# Altium footprint library JK00136NL.PcbLib: 1 footprints
Each footprint in its own frame and in the unit in brackets; x right, y up, seen from the top. Pads: shape width x height; smd on the part's side, far side on the other; paste and mask are expansions set on the pad; w line width, h text height; cw(c..) or ccw(c..) is an arc to the next point about the centre after c.
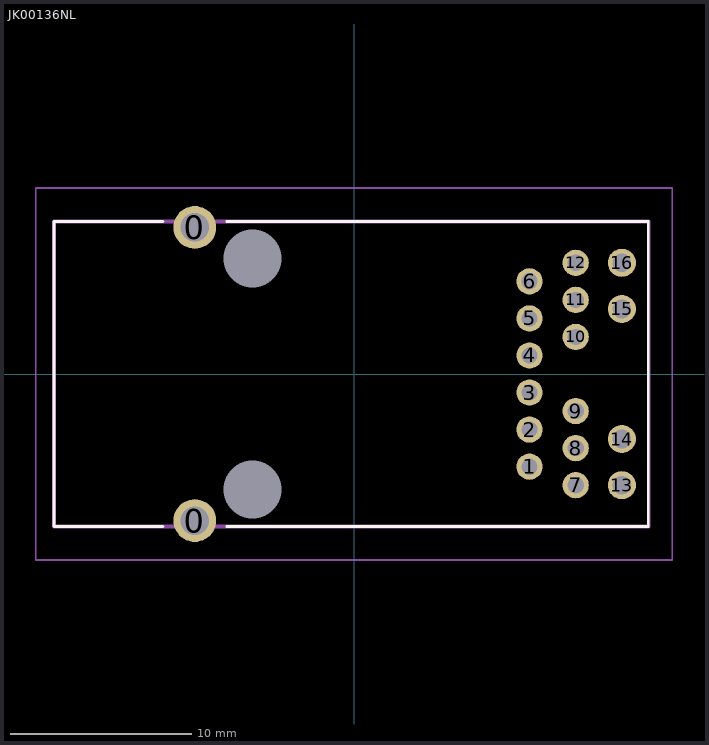
[diagram p0: the footprint, top view; thin cyan lines are the x and y axes]

## JK00136NL [mm]
pads (20):
  round 2.355 hole 1.57: 0(-8.76,-8.065) 0(-8.76,8.065)
  round 1.446 hole 0.89: 1(9.66,-5.1) 2(9.66,-3.06) 3(9.66,-1.02) 4(9.66,1.02) 5(9.66,3.06) 6(9.66,5.1) 7(12.2,-6.12) 8(12.2,-4.08) 9(12.2,-2.04) 10(12.2,2.04) 11(12.2,4.08) 12(12.2,6.12)
  round 1.545 hole 1.03: 13(14.74,-6.12) 14(14.74,-3.58) 15(14.74,3.58) 16(14.74,6.12)
  round 0 hole 3.2 unplated mask+1.7: 17(-5.58,6.35) 18(-5.58,-6.35)
Top Overlay:
  lines w0.15: -10.51,-8.395 -16.51,-8.395 -16.51,8.395 -10.51,8.395 ; -7.01,-8.395 16.2,-8.395 16.2,8.395 -7.01,8.395
Mechanical 15:
  lines w0.2: -16.51,-8.395 16.225,-8.395 16.225,8.395 -16.51,8.395 -16.51,-8.395
Mechanical 20:
  lines w0.1: -17.51,-10.242 17.51,-10.242 17.51,10.242 -17.51,10.242 -17.51,-10.242
3D body "JK0-0136NL.stp": height 15.04, standoff -3.8, extent -16.51,-9.84 16.18,9.84